# Altium footprint library 5050060812.PcbLib: 1 footprints
Each footprint in its own frame and in the unit in brackets; x right, y up, seen from the top. Pads: shape width x height; smd on the part's side, far side on the other; paste and mask are expansions set on the pad; w line width, h text height; cw(c..) or ccw(c..) is an arc to the next point about the centre after c.
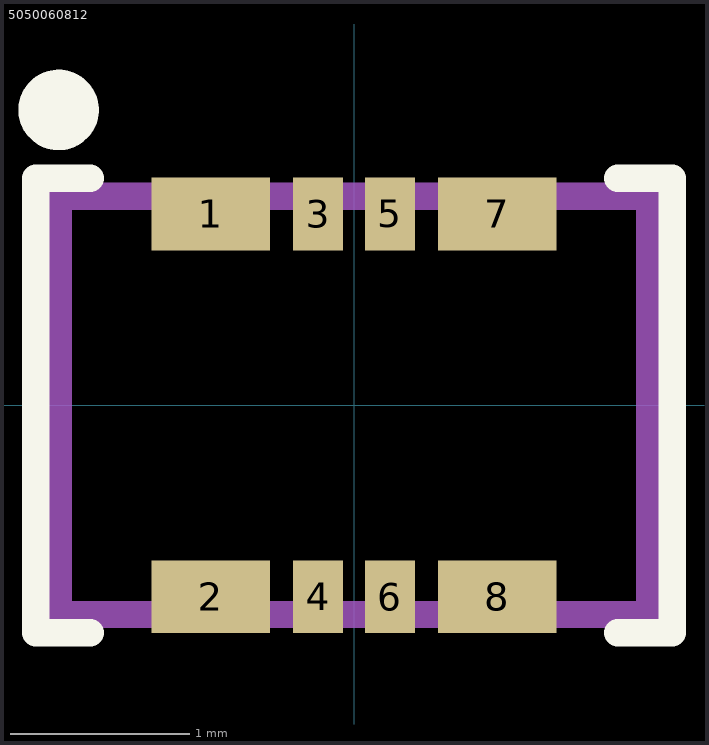
[diagram p0: the footprint, top view; thin cyan lines are the x and y axes]

## 5050060812 [mil]
pads (8):
  rect 26x16 smd mask+1.97: 1(-31.5,42.13) 2(-31.5,-42.13) 7(31.5,42.13) 8(31.5,-42.13)
  rect 11x16 smd mask+1.97: 3(-7.87,42.13) 4(-7.87,-42.13) 5(7.87,42.13) 6(7.87,-42.13)
Top Overlay:
  circle w9.84: c-65,65 r3.94
  lines w6: -58,-50 -70,-50 -70,50 -58,50 ; 58,-50 70,-50 70,50 58,50
Top 3D Body:
  lines w6: -65,-46 -65,46 65,46 65,-46 -65,-46
3D body "5050060812.x_t": height 24.02, standoff -0.79, extent -64.96,-45.67 64.96,45.67